# Altium footprint library Aeroval.PcbLib: 39 footprints (part 2 of 3)
Each footprint in its own frame and in the unit in brackets; x right, y up, seen from the top. Pads: shape width x height; smd on the part's side, far side on the other; paste and mask are expansions set on the pad; w line width, h text height; cw(c..) or ccw(c..) is an arc to the next point about the centre after c.
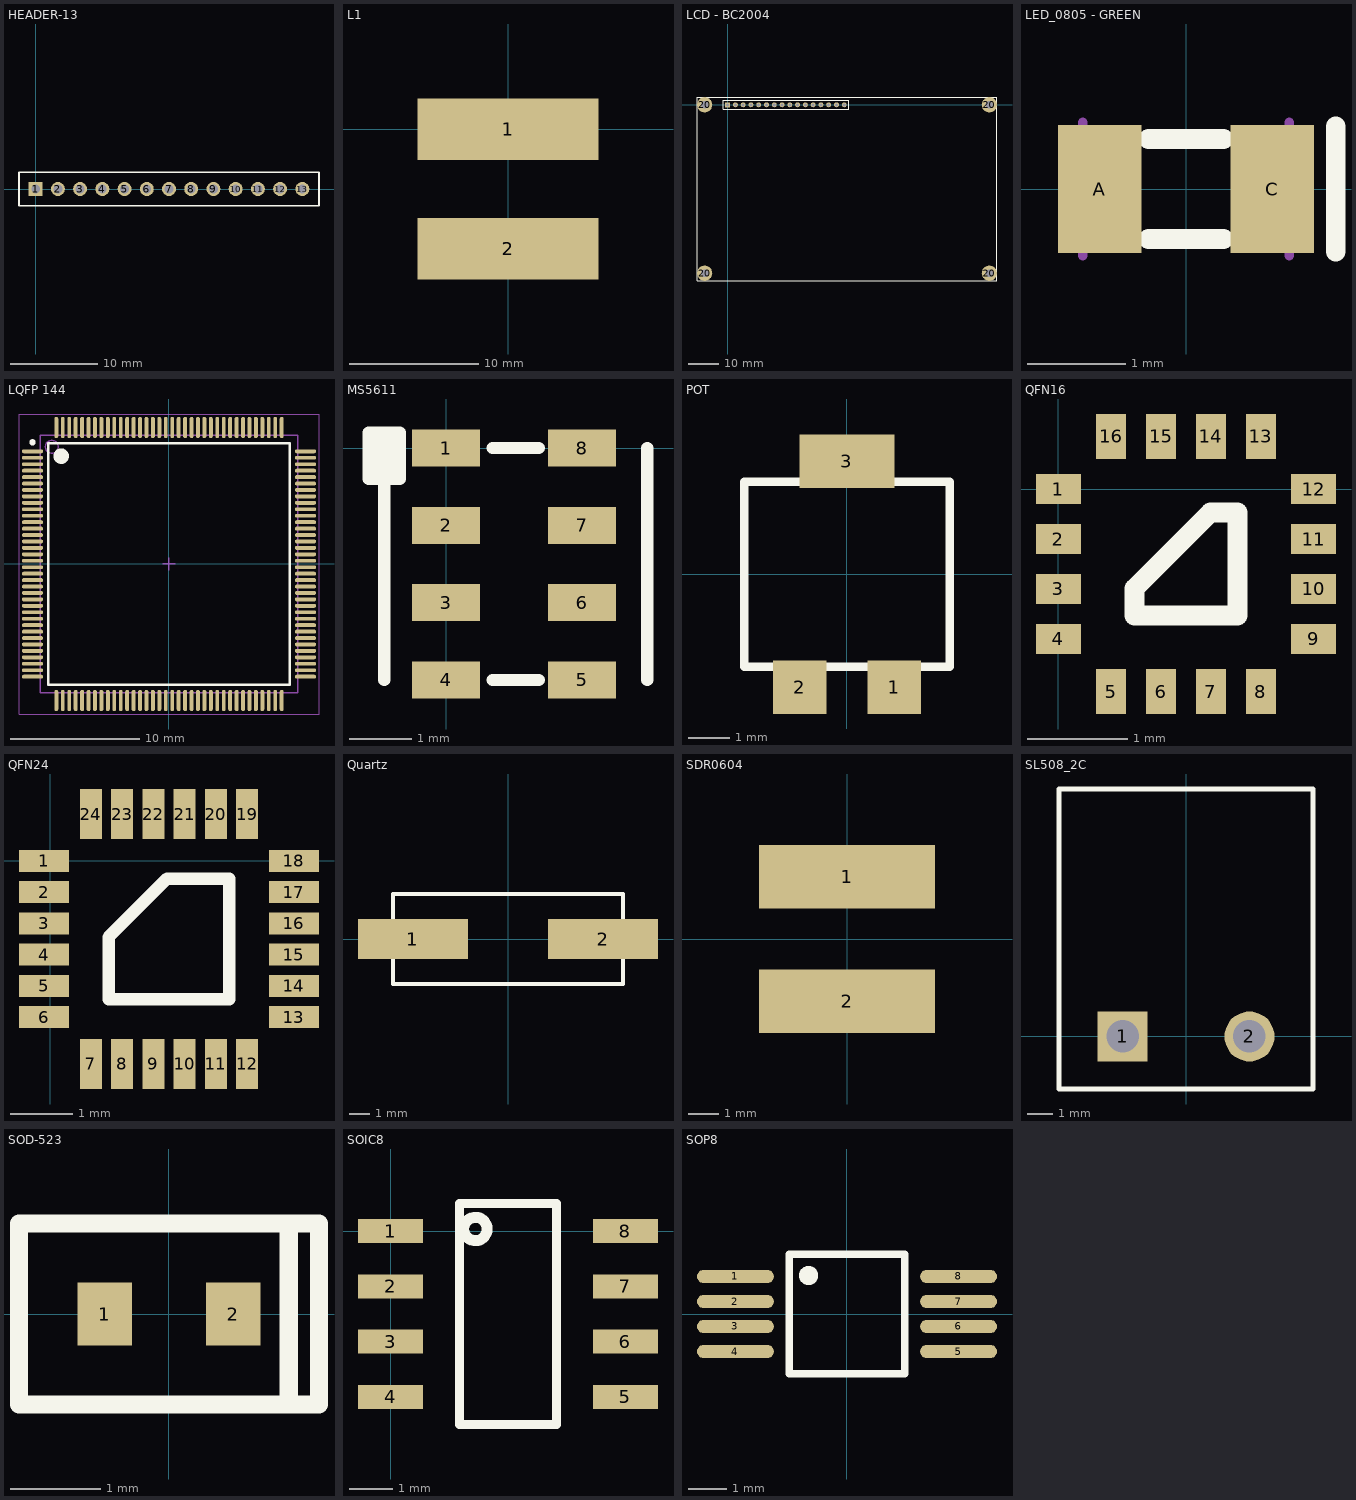
[diagram p1: the footprints below, top view; thin cyan lines are the x and y axes]

## HEADER-13 [mm]
pads (13):
  rect 1.6x1.6 hole 1: 1(0,0)
  round 1.6 hole 1: 2(2.54,0) 3(5.08,0) 4(7.62,0) 5(10.16,0) 6(12.7,0) 7(15.24,0) 8(17.78,0) 9(20.32,0) 10(22.86,0) 11(25.4,0) 12(27.94,0) 13(30.48,0)
Top Overlay:
  lines w0.2: -1.905,-1.905 32.385,-1.905 32.385,1.905 -1.905,1.905 -1.905,-1.905

## L1 [mm]
pads (2):
  rect 14x4.75 smd: 1(0,0) 2(0,-9.25)

## LCD - BC2004 [mm]
pads (20):
  rect 1.6x1.6 hole 1: 1(0,0)
  round 1.6 hole 1: 2(2.54,0) 3(5.08,0) 4(7.62,0) 5(10.16,0) 6(12.7,0) 7(15.24,0) 8(17.78,0) 9(20.32,0) 10(22.86,0) 11(25.4,0) 12(27.94,0) 13(30.48,0) 14(33.02,0) 15(35.56,0) 16(38.1,0)
  round 5 hole 2.5: 20(-7.5,-55) 20(-7.5,0) 20(85.5,-55) 20(85.5,0)
Top Overlay:
  lines w0.2: -10,0 -10,2.5 ; -10,2.5 -10,-57.5 88,-57.5 88,2.5 37.5,2.5 0,2.5 -10,2.5 ; -1.5,-1.5 39.5,-1.5 39.5,1.5 -1.5,1.5 -1.5,-1.5

## LED_0805 - GREEN [mm] "LED_0805"
height 1.1
pads (2):
  rect 0.85x1.3 smd: A(-0.875,0) C(0.875,0)
Top Overlay:
  lines w0.2: -0.381,-0.508 0.381,-0.508 ; -0.381,0.508 0.381,0.508 ; 1.524,-0.635 1.524,0.635
Mechanical 13:
  lines w0.1: -1.05,-0.675 -1.05,0.675 ; 1.05,-0.675 1.05,0.675
3D body: height 0.26, standoff 0, extent 0.751,-0.624 0.999,0.624
3D body: height 0.26, standoff 0, extent -0.999,-0.624 -0.751,0.624

## LQFP 144 [mm] "QFP, 144-Leads, Body 20x20mm, Pitch 0.5mm, IPC Medium Density"
height 1.6
pads (144):
  oval 1.65x0.3 smd: 1(-10.6,8.75) 2(-10.6,8.25) 3(-10.6,7.75) 4(-10.6,7.25) 5(-10.6,6.75) 6(-10.6,6.25) 7(-10.6,5.75) 8(-10.6,5.25) 9(-10.6,4.75) 10(-10.6,4.25) 11(-10.6,3.75) 12(-10.6,3.25) 13(-10.6,2.75) 14(-10.6,2.25) 15(-10.6,1.75) 16(-10.6,1.25) 17(-10.6,0.75) 18(-10.6,0.25) 19(-10.6,-0.25) 20(-10.6,-0.75) 21(-10.6,-1.25) 22(-10.6,-1.75) 23(-10.6,-2.25) 24(-10.6,-2.75) 25(-10.6,-3.25) 26(-10.6,-3.75) 27(-10.6,-4.25) 28(-10.6,-4.75) 29(-10.6,-5.25) 30(-10.6,-5.75) 31(-10.6,-6.25) 32(-10.6,-6.75) 33(-10.6,-7.25) 34(-10.6,-7.75) 35(-10.6,-8.25) 36(-10.6,-8.75) 73(10.6,-8.75) 74(10.6,-8.25) 75(10.6,-7.75) 76(10.6,-7.25) 77(10.6,-6.75) 78(10.6,-6.25) 79(10.6,-5.75) 80(10.6,-5.25) 81(10.6,-4.75) 82(10.6,-4.25) 83(10.6,-3.75) 84(10.6,-3.25) 85(10.6,-2.75) 86(10.6,-2.25) 87(10.6,-1.75) 88(10.6,-1.25) 89(10.6,-0.75) 90(10.6,-0.25) 91(10.6,0.25) 92(10.6,0.75) 93(10.6,1.25) 94(10.6,1.75) 95(10.6,2.25) 96(10.6,2.75) 97(10.6,3.25) 98(10.6,3.75) 99(10.6,4.25) 100(10.6,4.75) 101(10.6,5.25) 102(10.6,5.75) 103(10.6,6.25) 104(10.6,6.75) 105(10.6,7.25) 106(10.6,7.75) 107(10.6,8.25) 108(10.6,8.75)
  oval 0.3x1.65 smd: 37(-8.75,-10.6) 38(-8.25,-10.6) 39(-7.75,-10.6) 40(-7.25,-10.6) 41(-6.75,-10.6) 42(-6.25,-10.6) 43(-5.75,-10.6) 44(-5.25,-10.6) 45(-4.75,-10.6) 46(-4.25,-10.6) 47(-3.75,-10.6) 48(-3.25,-10.6) 49(-2.75,-10.6) 50(-2.25,-10.6) 51(-1.75,-10.6) 52(-1.25,-10.6) 53(-0.75,-10.6) 54(-0.25,-10.6) 55(0.25,-10.6) 56(0.75,-10.6) 57(1.25,-10.6) 58(1.75,-10.6) 59(2.25,-10.6) 60(2.75,-10.6) 61(3.25,-10.6) 62(3.75,-10.6) 63(4.25,-10.6) 64(4.75,-10.6) 65(5.25,-10.6) 66(5.75,-10.6) 67(6.25,-10.6) 68(6.75,-10.6) 69(7.25,-10.6) 70(7.75,-10.6) 71(8.25,-10.6) 72(8.75,-10.6) 109(8.75,10.6) 110(8.25,10.6) 111(7.75,10.6) 112(7.25,10.6) 113(6.75,10.6) 114(6.25,10.6) 115(5.75,10.6) 116(5.25,10.6) 117(4.75,10.6) 118(4.25,10.6) 119(3.75,10.6) 120(3.25,10.6) 121(2.75,10.6) 122(2.25,10.6) 123(1.75,10.6) 124(1.25,10.6) 125(0.75,10.6) 126(0.25,10.6) 127(-0.25,10.6) 128(-0.75,10.6) 129(-1.25,10.6) 130(-1.75,10.6) 131(-2.25,10.6) 132(-2.75,10.6) 133(-3.25,10.6) 134(-3.75,10.6) 135(-4.25,10.6) 136(-4.75,10.6) 137(-5.25,10.6) 138(-5.75,10.6) 139(-6.25,10.6) 140(-6.75,10.6) 141(-7.25,10.6) 142(-7.75,10.6) 143(-8.25,10.6) 144(-8.75,10.6)
Top Overlay:
  circle w0.6: c-8.375,8.375 r0.3
  circle w0.25: c-10.6,9.45 r0.125
  lines w0.2: -9.375,-9.375 9.375,-9.375 9.375,9.375 -9.375,9.375 -9.375,-9.375
Mechanical 13:
  circle w0.1: c-9.1,9.1 r0.5
  lines w0.1: -10,-10 10,-10 10,10 -10,10 -10,-10
Mechanical 15:
  lines w0.05: -11.65,-11.65 11.65,-11.65 11.65,11.65 -11.65,11.65 -11.65,-11.65
  lines w0.1: -0.5,0 0.5,0 ; 0,-0.5 0,0.5
3D body: height 1.6, standoff 0.05, extent -10,-10 10,10

## MS5611 [mm]
pads (8):
  rect 1.1x0.6 smd: 1(0,0) 2(0,-1.25) 3(0,-2.5) 4(0,-3.75) 5(2.2,-3.75) 6(2.2,-2.5) 7(2.2,-1.25) 8(2.2,0)
Top Overlay:
  rectangle: -1.25,-0.5 -0.75,0.25
  lines w0.2: -1,-3.75 -1,0 ; 0.75,-3.75 1.5,-3.75 ; 0.75,0 1.5,0 ; 3.25,-3.75 3.25,0 ; -1.25,-0.5 -1.25,0.25 -0.75,0.25 -0.75,-0.5 -1.25,-0.5

## PCBComponent_1 [mm]

## POT [mm]
pads (3):
  rect 1.3x1.3 smd: 1(1.15,-2.75) 2(-1.15,-2.75)
  rect 2.3x1.3 smd: 3(0,2.75)
Top Overlay:
  lines w0.2: -2.5,-2.25 -2.5,2.25 2.5,2.25 2.5,-2.25 -2.5,-2.25

## QFN16 [mm]
pads (16):
  rect 0.45x0.3 smd: 1(0,0) 2(0,-0.5) 3(0,-1) 4(0,-1.5) 9(2.55,-1.5) 10(2.55,-1) 11(2.55,-0.5) 12(2.55,0)
  rect 0.3x0.45 smd: 5(0.525,-2.025) 6(1.025,-2.025) 7(1.525,-2.025) 8(2.025,-2.025) 13(2.025,0.525) 14(1.525,0.525) 15(1.025,0.525) 16(0.525,0.525)
Top Overlay:
  lines w0.2: 0.76,-1.265 0.76,-0.995 1.52,-0.235 1.79,-0.235 1.79,-1.265 0.76,-1.265

## QFN24 [mm]
pads (24):
  rect 0.8x0.35 smd: 1(-0.1,0) 2(-0.1,-0.5) 3(-0.1,-1) 4(-0.1,-1.5) 5(-0.1,-2) 6(-0.1,-2.5) 13(3.9,-2.5) 14(3.9,-2) 15(3.9,-1.5) 16(3.9,-1) 17(3.9,-0.5) 18(3.9,0)
  rect 0.35x0.8 smd: 7(0.65,-3.25) 8(1.15,-3.25) 9(1.65,-3.25) 10(2.15,-3.25) 11(2.65,-3.25) 12(3.15,-3.25) 19(3.15,0.75) 20(2.65,0.75) 21(2.15,0.75) 22(1.65,0.75) 23(1.15,0.75) 24(0.65,0.75)
Top Overlay:
  lines w0.2: 0.935,-2.215 2.865,-2.215 2.865,-0.285 1.87,-0.285 0.935,-1.22 0.935,-2.215

## Quartz [mm]
pads (2):
  rect 5.5x2 smd: 1(-4.75,0) 2(4.75,0)
Top Overlay:
  lines w0.2: -5.75,-2.25 -5.75,2.25 5.75,2.25 5.75,-2.25 -5.75,-2.25

## SDR0604 [mm]
pads (2):
  rect 5.8x2.1 smd: 1(0,2.05) 2(0,-2.05)

## SL508_2C [mm] "Weidmuller SL 5.08/02/90B"
height 12
pads (2):
  rect 2x2 hole 1.3: 1(-2.54,0)
  round 2 hole 1.3: 2(2.54,0)
Top Overlay:
  lines w0.2: -5.08,-2.1 -5.08,9.9 5.08,9.9 5.08,-2.1 -5.08,-2.1

## SOD-523 [mm]
pads (2):
  rect 0.6x0.7 smd: 1(-0.71,0) 2(0.71,0)
Top Overlay:
  lines w0.2: 1.325,-1 1.325,1 ; -1.66,-1 -1.66,0 -1.66,1 1.66,1 1.66,-1 -1.66,-1

## SOIC8 [mm]
pads (8):
  rect 1.5x0.55 smd: 1(0,0) 2(0,-1.27) 3(0,-2.54) 4(0,-3.81) 5(5.4,-3.81) 6(5.4,-2.54) 7(5.4,-1.27) 8(5.4,0)
Top Overlay:
  circle w0.254: c1.95,0.05 r0.269
  lines w0.2: 1.585,-4.445 1.585,0.635 2.382,0.635 3.017,0.635 3.815,0.635 3.815,-4.445 1.585,-4.445

## SOP8 [mm] "SOP, 8-Leads, Body 3x4.4mm, Pitch 0.65mm, IPC Low Density"
height 2
pads (8):
  oval 2x0.35 smd: 1(-2.9,0.975) 2(-2.9,0.325) 3(-2.9,-0.325) 4(-2.9,-0.975) 5(2.9,-0.975) 6(2.9,-0.325) 7(2.9,0.325) 8(2.9,0.975)
Top Overlay:
  circle w0.25: c-1,1 r0.125
  lines w0.2: -1.5,-1.55 -1.5,1.55 1.5,1.55 1.5,-1.55 -1.5,-1.55